# EAGLE library part LCD_NOKIA_5110 (library Circuitos-Creativos-Modulos)
MODULO LCD NOKIA 5110, 84x48 pixeles 3.3V
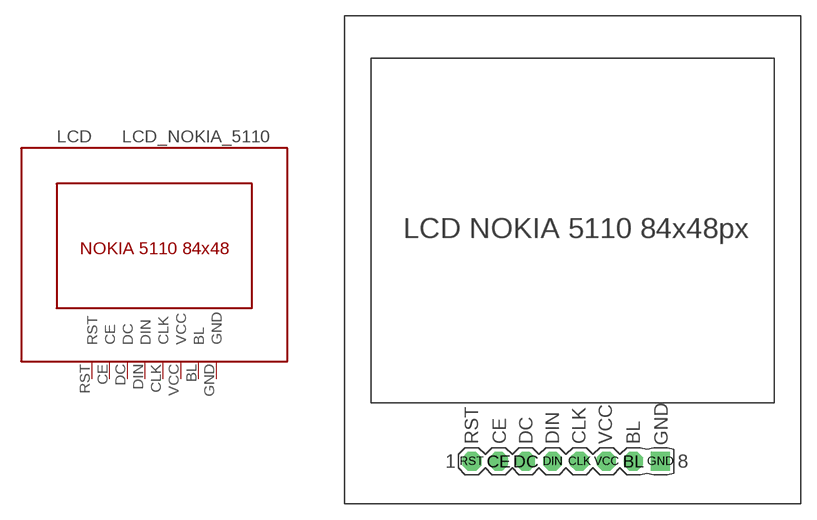
[diagram p6: symbol with the pads of NOKIA_5110_THT; footprint NOKIA_5110_THT]

Designator prefix LCD

## LCD_NOKIA_5110  [NOKIA_5110_THT]
BL  BL
CE  CE
CLK  CLK
DC  DC
DIN  DIN
GND  GND  pwr
RST  RST
VCC  VCC  pwr

## Footprint NOKIA_5110_THT (pad centres in mm)
drill 0.9 pad 1.778 octagon: BL 27.225,4; CE 14.525,4; CLK 22.145,4; DC 17.065,4; DIN 19.605,4; RST 11.985,4; VCC 24.685,4
drill 0.9 pad 1.778 square: GND 29.765,4